# Altium schematic symbol library FERRITE.SchLib: 1 symbol
Pins are listed as number, name and electrical type; pins without a type are passive.

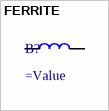
[diagram p0: symbol FERRITE]

## FERRITE
designator B?
pins: 1, 2